# Altium footprint library Resistors.PcbLib: 13 footprints
Each footprint in its own frame and in the unit in brackets; x right, y up, seen from the top. Pads: shape width x height; smd on the part's side, far side on the other; paste and mask are expansions set on the pad; w line width, h text height; cw(c..) or ccw(c..) is an arc to the next point about the centre after c.
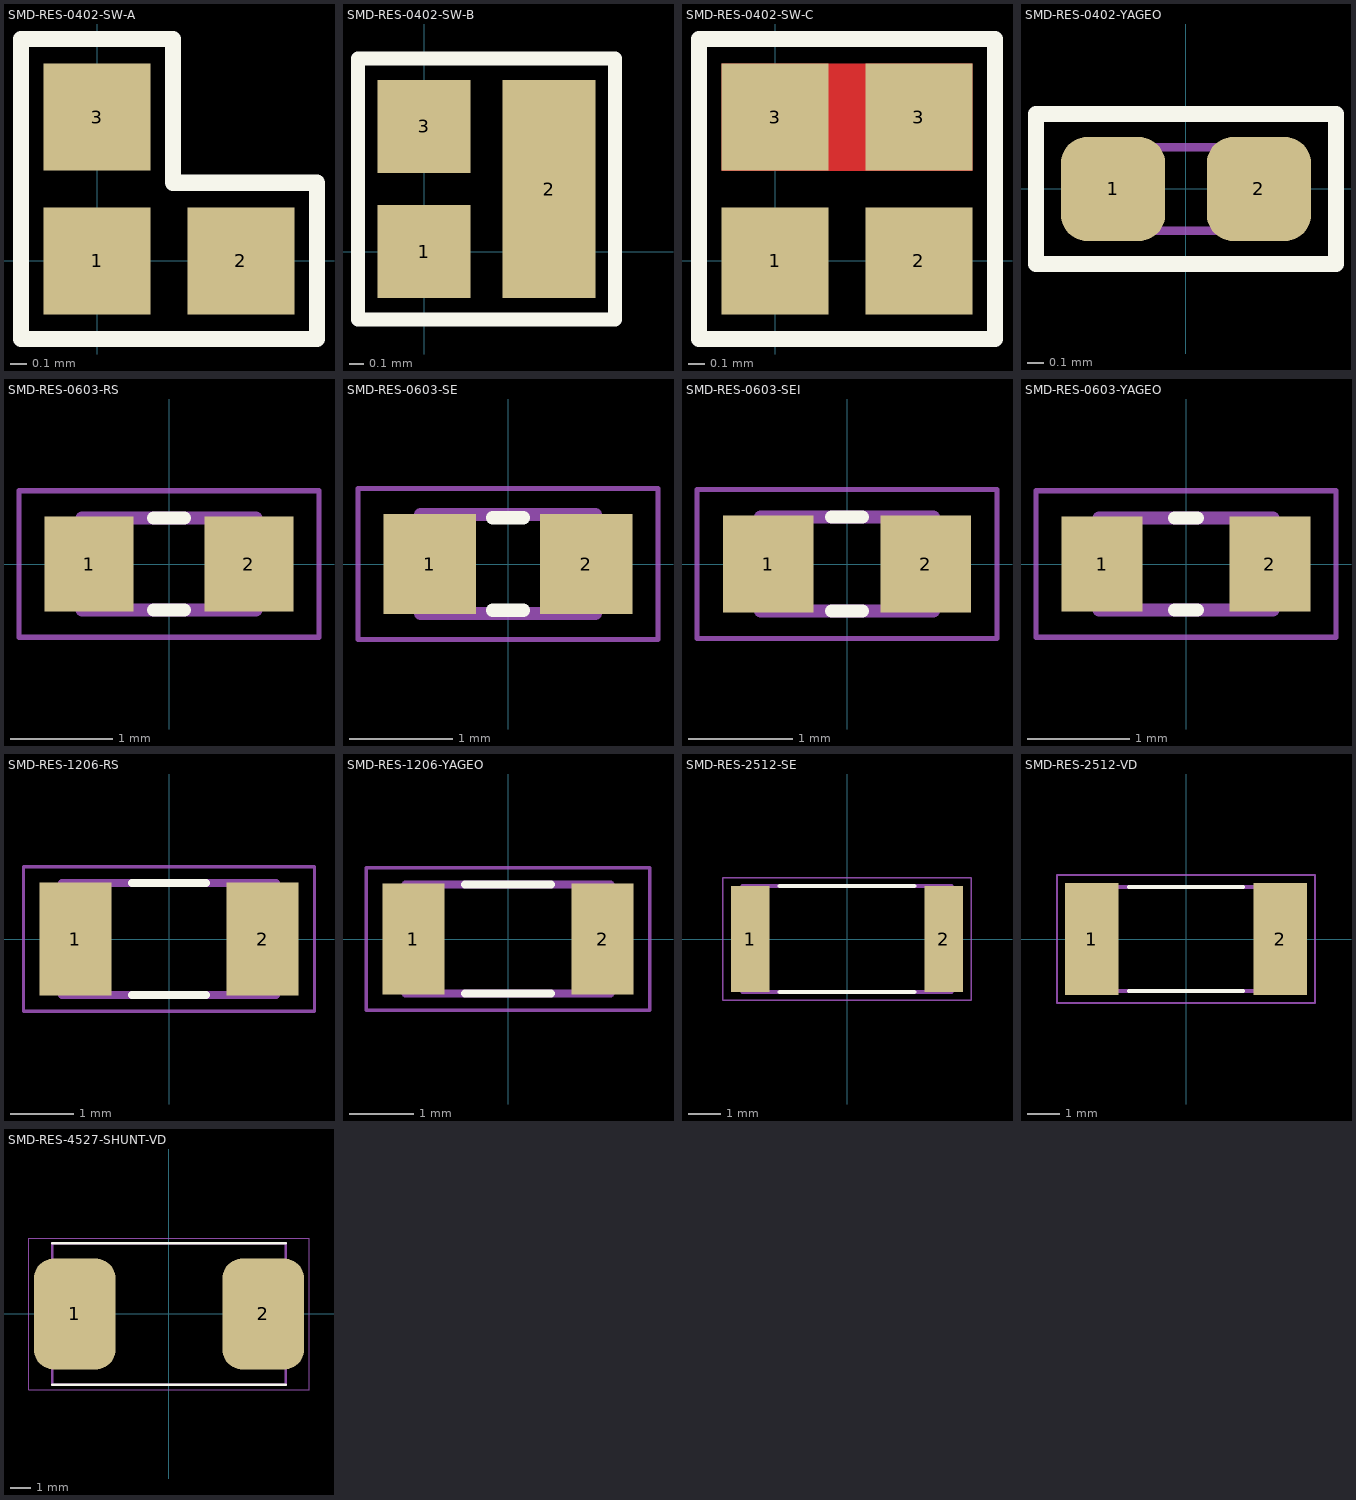
[diagram p0: the footprints below, top view; thin cyan lines are the x and y axes]

## SMD-RES-0402-SW-A [mm]
pads (3):
  rect 0.66x0.66 smd: 1(0,0) 2(0.889,0) 3(0,0.889)
Top Overlay:
  lines w0.1: -0.47,-0.483 -0.47,1.372 0.47,1.372 0.47,0.483 1.359,0.483 1.359,-0.483 -0.47,-0.483
Mechanical 15:
  lines w0.05: -0.47,-0.483 -0.47,1.372 0.47,1.372 0.47,0.483 1.359,0.483 1.359,-0.483 -0.47,-0.483
Mechanical 29:
  lines w0.05: -0.47,-0.483 -0.47,1.372 0.47,1.372 0.47,0.483 1.359,0.483 1.359,-0.483 -0.47,-0.483
3D body "Res 0402.step": height 0.35, standoff 0, extent -0.055,-0.25 0.944,0.25

## SMD-RES-0402-SW-B [mm]
pads (3):
  rect 0.66x0.66 smd: 1(0,0) 3(0,0.889)
  rect 0.66x1.549 smd: 2(0.889,0.445)
Top Overlay:
  lines w0.1: -0.47,-0.483 1.359,-0.483 1.359,1.372 0.47,1.372 -0.47,1.372 -0.47,-0.483
Mechanical 15:
  lines w0.05: -0.47,-0.483 1.359,-0.483 1.359,1.372 0.47,1.372 -0.47,1.372 -0.47,-0.483
Mechanical 29:
  lines w0.05: -0.47,-0.483 1.359,-0.483 1.359,1.372 0.47,1.372 -0.47,1.372 -0.47,-0.483
3D body "Res 0402.step": height 0.35, standoff 0, extent -0.055,-0.25 0.944,0.25

## SMD-RES-0402-SW-C [mm]
pads (4):
  rect 0.66x0.66 smd: 1(0,0) 2(0.889,0) 3(0,0.889) 3(0.889,0.889)
Top Layer:
  region: -0.33,1.219 -0.33,0.559 1.219,0.559 1.219,1.219
Top Overlay:
  lines w0.1: -0.47,-0.483 -0.47,1.372 0.47,1.372 1.359,1.372 1.359,-0.483 -0.47,-0.483
Mechanical 15:
  lines w0.05: -0.47,-0.483 -0.47,1.372 0.47,1.372 1.359,1.372 1.359,-0.483 -0.47,-0.483
Mechanical 29:
  lines w0.05: -0.47,-0.483 -0.47,1.372 0.47,1.372 1.359,1.372 1.359,-0.483 -0.47,-0.483
3D body "Res 0402.step": height 0.35, standoff 0, extent -0.055,-0.25 0.944,0.25

## SMD-RES-0402-YAGEO [mil]
pads (2):
  rrect50% 25x25 smd: 1(-17.5,0) 2(17.5,0)
Top Overlay:
  lines w3.94: -36,-18 -36,18 36,18 36,-18 -36,-18
Mechanical 1:
  lines w1.97: -20,-10 20,-10 20,10 -20,10 -20,-10
Mechanical 13:
  lines w1.97: -20,-10 20,-10 20,10 -20,10 -20,-10
Mechanical 15:
  lines w1.97: -36,-18 -36,18 36,18 36,-18 -36,-18
Mechanical 29:
  lines w1.97: -36,-18 36,-18 36,18 -36,18 -36,-18
3D body "Res 0402.step": height 13.82, standoff 0, extent -19.68,-9.84 19.68,9.84

## SMD-RES-0603-RS [mm]
pads (2):
  rect 0.87x0.93 smd: 1(-0.78,0) 2(0.78,0)
Top Overlay:
  lines w0.127: -0.15,-0.45 0.15,-0.45 ; -0.15,0.45 0.15,0.45
Mechanical 1:
  lines w0.127: -0.85,-0.45 -0.85,0.45 0.85,0.45 0.85,-0.45 -0.85,-0.45
Mechanical 13:
  lines w0.127: -0.85,-0.45 -0.85,0.45 0.85,0.45 0.85,-0.45 -0.85,-0.45
Mechanical 15:
  lines w0.05: -1.465,-0.715 -1.465,0.715 1.465,0.715 1.465,-0.715 -1.465,-0.715
Mechanical 29:
  lines w0.05: -1.465,-0.715 -1.465,0.715 1.465,0.715 1.465,-0.715 -1.465,-0.715
  text "'.Designator'" at -1.016,-0.127 h0.4
3D body "Res 0603.step": height 0.47, standoff 0.01, extent -0.8,-0.4 0.8,0.4

## SMD-RES-0603-SE [mm]
pads (2):
  rect 0.9x0.97 smd: 1(-0.76,0) 2(0.76,0)
Top Overlay:
  lines w0.127: -0.15,-0.45 0.15,-0.45 ; -0.15,0.45 0.15,0.45
Mechanical 1:
  lines w0.127: -0.85,-0.48 0.85,-0.48 0.85,0.48 -0.85,0.48 -0.85,-0.48
Mechanical 13:
  lines w0.127: -0.85,-0.48 0.85,-0.48 0.85,0.48 -0.85,0.48 -0.85,-0.48
Mechanical 15:
  lines w0.05: -1.46,-0.735 1.46,-0.735 1.46,0.735 -1.46,0.735 -1.46,-0.735
Mechanical 29:
  lines w0.05: -1.46,-0.735 1.46,-0.735 1.46,0.735 -1.46,0.735 -1.46,-0.735
  text "'.Designator'" at -1.651,-0.254 h0.7
3D body "Res 0603.step": height 0.47, standoff 0.01, extent -0.8,-0.4 0.8,0.4

## SMD-RES-0603-SEI [mm]
pads (2):
  rect 0.87x0.93 smd: 1(-0.755,0) 2(0.755,0)
Top Overlay:
  lines w0.127: -0.15,-0.45 0.15,-0.45 ; -0.15,0.45 0.15,0.45
Mechanical 1:
  lines w0.127: -0.83,-0.45 0.83,-0.45 0.83,0.45 -0.83,0.45 -0.83,-0.45
Mechanical 13:
  lines w0.127: -0.83,-0.45 0.83,-0.45 0.83,0.45 -0.83,0.45 -0.83,-0.45
Mechanical 15:
  lines w0.05: -1.44,-0.715 1.44,-0.715 1.44,0.715 -1.44,0.715 -1.44,-0.715
Mechanical 29:
  lines w0.05: -1.44,-0.715 1.44,-0.715 1.44,0.715 -1.44,0.715 -1.44,-0.715
  text "'.Designator'" at -1.524,-0.254 h0.7
3D body "Res 0603.step": height 0.47, standoff 0.01, extent -0.8,-0.4 0.8,0.4

## SMD-RES-0603-YAGEO [mm]
pads (2):
  rect 0.79x0.93 smd: 1(-0.82,0) 2(0.82,0)
Top Overlay:
  lines w0.127: -0.11,-0.45 0.11,-0.45 ; -0.11,0.45 0.11,0.45
Mechanical 1:
  lines w0.127: -0.85,-0.45 0.85,-0.45 0.85,0.45 -0.85,0.45 -0.85,-0.45
Mechanical 13:
  lines w0.127: -0.85,-0.45 0.85,-0.45 0.85,0.45 -0.85,0.45 -0.85,-0.45
Mechanical 15:
  lines w0.05: -1.465,-0.715 1.465,-0.715 1.465,0.715 -1.465,0.715 -1.465,-0.715
Mechanical 29:
  lines w0.05: -1.465,-0.715 1.465,-0.715 1.465,0.715 -1.465,0.715 -1.465,-0.715
  text "'.Designator'" at -1.27,-0.254 h0.5
3D body "Res 0603.step": height 0.47, standoff 0.01, extent -0.8,-0.4 0.8,0.4

## SMD-RES-1206-RS [mm]
pads (2):
  rect 1.13x1.77 smd: 1(-1.47,0) 2(1.47,0)
Top Overlay:
  lines w0.127: -0.58,-0.88 0.58,-0.88 ; -0.58,0.88 0.58,0.88
Mechanical 13:
  lines w0.127: -1.68,-0.88 -1.68,0.88 1.68,0.88 1.68,-0.88 -1.68,-0.88
Mechanical 15:
  lines w0.05: -2.285,-1.135 -2.285,1.135 2.285,1.135 2.285,-1.135 -2.285,-1.135
3D body "Res 1206.step": height 0.62, standoff 0.01, extent -1.6,-0.8 1.6,0.8

## SMD-RES-1206-YAGEO [mm]
pads (2):
  rect 0.97x1.73 smd: 1(-1.48,0) 2(1.48,0)
Top Overlay:
  lines w0.127: -0.67,-0.85 0.67,-0.85 ; -0.67,0.85 0.67,0.85
Mechanical 1:
  lines w0.127: -1.6,-0.85 -1.6,0.85 1.6,0.85 1.6,-0.85 -1.6,-0.85
Mechanical 13:
  lines w0.127: -1.6,-0.85 -1.6,0.85 1.6,0.85 1.6,-0.85 -1.6,-0.85
Mechanical 15:
  lines w0.05: -2.215,-1.115 -2.215,1.115 2.215,1.115 2.215,-1.115 -2.215,-1.115
Mechanical 29:
  lines w0.05: -2.215,-1.115 -2.215,1.115 2.215,1.115 2.215,-1.115 -2.215,-1.115
  text "'.Designator'" at -1.778,-0.254 h0.8
3D body "Res 1206.step": height 0.62, standoff 0.01, extent -1.6,-0.8 1.6,0.8

## SMD-RES-2512-SE [mm]
pads (2):
  rect 1.21x3.32 smd: 1(-3.025,0) 2(3.025,0)
Top Overlay:
  lines w0.127: -2.1,-1.65 2.1,-1.65 ; -2.1,1.65 2.1,1.65
Mechanical 1:
  lines w0.127: -3.27,-1.65 -3.27,1.65 3.27,1.65 3.27,-1.65 -3.27,-1.65
Mechanical 13:
  lines w0.127: -3.27,-1.65 -3.27,1.65 3.27,1.65 3.27,-1.65 -3.27,-1.65
Mechanical 15:
  lines w0.05: -3.883,-1.91 -3.883,1.91 3.883,1.91 3.883,-1.91 -3.883,-1.91
Mechanical 29:
  lines w0.05: -3.883,-1.91 -3.883,1.91 3.883,1.91 3.883,-1.91 -3.883,-1.91
  text "'.Designator'" at -1.778,-0.127 h0.7
3D body "Res 2512.step": height 0.66, standoff 0.01, extent -3.15,-1.6 3.15,1.6

## SMD-RES-2512-VD [mm]
height 0.65
pads (2):
  rect 1.62x3.4 smd: 1(-2.873,0) 2(2.873,0)
Top Overlay:
  lines w0.127: -1.74,-1.59 1.74,-1.59 ; -1.74,1.59 1.74,1.59
Mechanical 1:
  lines w0.127: -3.175,-1.59 3.175,-1.59 3.175,1.59 -3.175,1.59 -3.175,-1.59
Mechanical 13:
  lines w0.127: -3.175,-1.59 3.175,-1.59 3.175,1.59 -3.175,1.59 -3.175,-1.59
Mechanical 15:
  lines w0.05: -3.933,-1.95 3.933,-1.95 3.933,1.95 -3.933,1.95 -3.933,-1.95
Mechanical 29:
  lines w0.05: -3.933,-1.95 3.933,-1.95 3.933,1.95 -3.933,1.95 -3.933,-1.95
  text "'.Designator'" at -4.826,-1.016 h2
3D body "Res 2512.step": height 0.66, standoff 0.01, extent -3.15,-1.6 3.15,1.6

## SMD-RES-4527-SHUNT-VD [mm]
pads (2):
  rrect50% 4.04x5.51 smd: 1(-4.665,0) 2(4.665,0)
Top Overlay:
  lines w0.127: -5.78,-3.49 5.78,-3.49 ; -5.78,3.49 5.78,3.49
Mechanical 1:
  lines w0.127: -5.78,-3.49 5.78,-3.49 5.78,3.49 -5.78,3.49 -5.78,-3.49
Mechanical 13:
  lines w0.127: -5.78,-3.49 5.78,-3.49 5.78,3.49 -5.78,3.49 -5.78,-3.49
Mechanical 15:
  lines w0.05: -6.935,-3.74 6.935,-3.74 6.935,3.74 -6.935,3.74 -6.935,-3.74
Mechanical 29:
  lines w0.05: -6.935,-3.74 6.935,-3.74 6.935,3.74 -6.935,3.74 -6.935,-3.74
  text "'.Designator'" at -4.572,-0.762 h2
3D body "RES_WSR2.step": height 0.71, standoff 0, extent -6.121,-2.921 6.121,2.921